# EAGLE library part NOKIA_LCD (library connectors)
Nokia 3310 LCD module Footprint for the Nokia 3310 LCD module. Can be obtained at www.techdesign.be Lieven Hollevoet
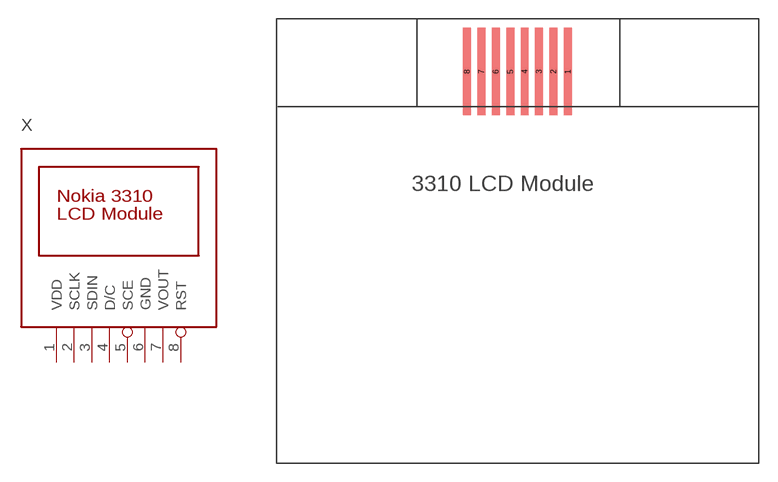
[diagram p3: symbol with the pads of NOKIA_LCD; footprint NOKIA_LCD]

Designator prefix X

## NOKIA_LCDA  [NOKIA_LCD]
1  VDD  pwr
2  SCLK  in
3  SDIN  in
4  D/C  in
5  SCE  in
6  GND  pwr
7  VOUT  pwr
8  RST  in

## Footprint NOKIA_LCD (pad centres in mm)
smd 0.635 x 7: 1 4.01,-4.215; 2 2.86,-4.215; 3 1.71,-4.215; 4 0.56,-4.215; 5 -0.59,-4.215; 6 -1.74,-4.215; 7 -2.89,-4.215; 8 -4.04,-4.215